# Altium integrated library ARDUINO_PRO_MINI.IntLib: 1 symbol
Pins are listed as number, name and electrical type; pins without a type are passive.

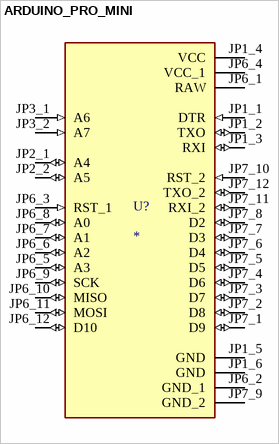
[diagram p0: symbol ARDUINO_PRO_MINI]

## ARDUINO_PRO_MINI
designator U?
This board was developed for applications and installations where space is premium and projects are made as permanent set ups. Small, available in 3.3 V and 5 V versions, powered by ATmega328P.; MF: Arduino; MP: Arduino Pro Mini; SnapEDA_Link: https://www.snapeda.com/parts/Arduino%20Pro%20Mini/Arduino/view-part/?ref=snap; Package: None; Value: *; Check_prices: https://www.snapeda.com/parts/Arduino%20Pro%20Mini/Arduino/view-part/?ref=eda
footprint MODULE_ARDUINO_PRO_MINI
pins: JP1_1 DTR (in), JP1_2 TXO (io), JP1_3 RXI (io), JP1_4 VCC (power), JP1_5 GND (power), JP1_6 GND (power), JP2_1 A4 (io), JP2_2 A5 (io), JP3_1 A6 (in), JP3_2 A7 (in), JP6_1 RAW (power), JP6_2 GND_1 (power), JP6_3 RST_1 (in), JP6_4 VCC_1 (power), JP6_5 A3 (io), JP6_6 A2 (io), JP6_7 A1 (io), JP6_8 A0 (io), JP6_9 SCK (io), JP6_10 MISO (io), JP6_11 MOSI (io), JP6_12 D10 (io), JP7_1 D9 (io), JP7_2 D8 (io), JP7_3 D7 (io), JP7_4 D6 (io), JP7_5 D5 (io), JP7_6 D4 (io), JP7_7 D3 (io), JP7_8 D2 (io), JP7_9 GND_2 (power), JP7_10 RST_2 (in), JP7_11 RXI_2 (io), JP7_12 TXO_2 (io)